# Altium footprint library Capacitors.PcbLib: 5 footprints
Each footprint in its own frame and in the unit in brackets; x right, y up, seen from the top. Pads: shape width x height; smd on the part's side, far side on the other; paste and mask are expansions set on the pad; w line width, h text height; cw(c..) or ccw(c..) is an arc to the next point about the centre after c.
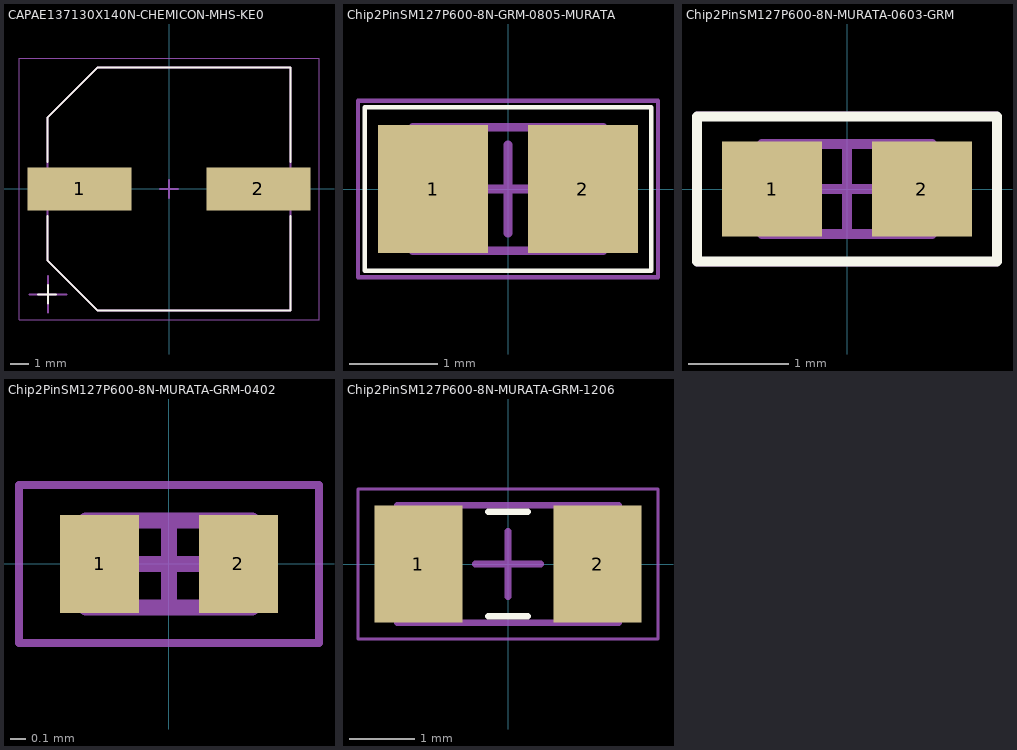
[diagram p0: the footprints below, top view; thin cyan lines are the x and y axes]

## CAPAE137130X140N-CHEMICON-MHS-KE0 [mm] "Aluminum Electrolytic Capacitor, Body 13.00x13.00x14.00mm, IPC Medium Density"
height 14
pads (2):
  rect 5.65x2.35 smd: 1(-4.85,0) 2(4.85,0)
Top Overlay:
  lines w0.1: -7.125,-5.725 -6.125,-5.725 ; -6.6,-1.475 -6.6,-3.888 -3.888,-6.6 6.6,-6.6 6.6,-1.475 ; -6.6,1.475 -6.6,3.887 -3.888,6.6 6.6,6.6 6.6,1.475 ; -6.575,-6.225 -6.575,-5.225
Top Courtyard (Mech10):
  lines w0.05: -8.15,-7.1 8.15,-7.1 8.15,7.1 -8.15,7.1 -8.15,-7.1
  lines w0.1: -0.5,0 0.5,0 ; 0,-0.5 0,0.5
Top Assembly (Mech12):
  lines w0.1: -7.575,-5.725 -5.575,-5.725 ; -6.575,-6.725 -6.575,-4.725 ; -6.6,-3.888 -6.6,3.887 -3.888,6.6 6.6,6.6 6.6,-6.6 -3.888,-6.6 -6.6,-3.888
3D body "CAPAE137130X140N-CHEMICON-MHS-KE0.step": height 14, standoff 0, extent -6.85,-6.6 6.85,6.6

## Chip2PinSM127P600-8N-GRM-0805-MURATA [mm]
height 0.95
pads (2):
  rect 1.25x1.45 smd: 1(-0.85,0) 2(0.85,0)
Top Overlay:
  lines w0.05: -1.625,-0.925 1.625,-0.925 1.625,0.925 -1.625,0.925 -1.625,-0.925
Top Courtyard (Mech10):
  lines w0.05: -1.7,-1 -1.7,1 1.7,1 1.7,-1 -1.7,-1
  lines w0.1: -0.5,0 0.5,0 ; 0,-0.5 0,0.5
Top Assembly (Mech12):
  lines w0.1: -1.075,-0.7 -1.075,0.7 1.075,0.7 1.075,-0.7 -1.075,-0.7
3D body "Chip2PinSM127P600-8N-GRM-0805-MURATA.step": height 0.95, standoff 0, extent -1.075,-0.7 1.075,0.7

## Chip2PinSM127P600-8N-MURATA-0603-GRM [mm]
height 0.9
pads (2):
  rect 1x0.95 smd: 1(-0.75,0) 2(0.75,0)
Top Overlay:
  lines w0.1: -1.5,-0.725 -1.5,0.725 1.5,0.725 1.5,-0.725 -1.5,-0.725
Top Courtyard (Mech10):
  lines w0.05: -1.5,-0.75 -1.5,0.75 1.5,0.75 1.5,-0.75 -1.5,-0.75
  lines w0.1: -0.45,0 0.45,0 ; 0,-0.45 0,0.45
Top Assembly (Mech12):
  lines w0.1: -0.85,-0.45 -0.85,0.45 0.85,0.45 0.85,-0.45 -0.85,-0.45
3D body "Chip2PinSM127P600-8N-MURATA-0603-GRM.step": height 0.9, standoff 0, extent -0.85,-0.45 0.85,0.45

## Chip2PinSM127P600-8N-MURATA-GRM-0402 [mm] "based in GRM155R71H104KE14D"
height 0.55
pads (2):
  rect 0.5x0.62 smd: 1(-0.44,0) 2(0.44,0)
Top Courtyard (Mech10):
  lines w0.05: -0.95,-0.5 -0.95,0.5 0.95,0.5 0.95,-0.5 -0.95,-0.5
  lines w0.1: -0.275,0 0.275,0 ; 0,-0.275 0,0.275
Top Assembly (Mech12):
  lines w0.1: -0.525,-0.275 -0.525,0.275 0.525,0.275 0.525,-0.275 -0.525,-0.275
3D body "Chip2PinSM127P600-8N-MURATA-GRM-1206-new.step": height 0.55, standoff 0, extent -0.525,-0.275 0.525,0.275

## Chip2PinSM127P600-8N-MURATA-GRM-1206 [mm] "based in GRM31CR71H475KA12K"
height 1.8
pads (2):
  rect 1.35x1.8 smd: 1(-1.375,0) 2(1.375,0)
Top Overlay:
  lines w0.1: -0.3,-0.8 0.3,-0.8 ; -0.3,0.8 0.3,0.8
Top Courtyard (Mech10):
  lines w0.05: -2.3,-1.15 2.3,-1.15 2.3,1.15 -2.3,1.15 -2.3,-1.15
  lines w0.1: -0.5,0 0.5,0 ; 0,-0.5 0,0.5
Top Assembly (Mech12):
  lines w0.1: -1.7,-0.9 1.7,-0.9 1.7,0.9 -1.7,0.9 -1.7,-0.9
3D body "Chip2PinSM127P600-8N-MURATA-GRM-1206.step": height 1.8, standoff 0, extent -1.7,-0.9 1.7,0.9